# EAGLE library part MX29F040CQI (library macronix-custom)
IC FLASH 4MBIT 70NS 32PLCC
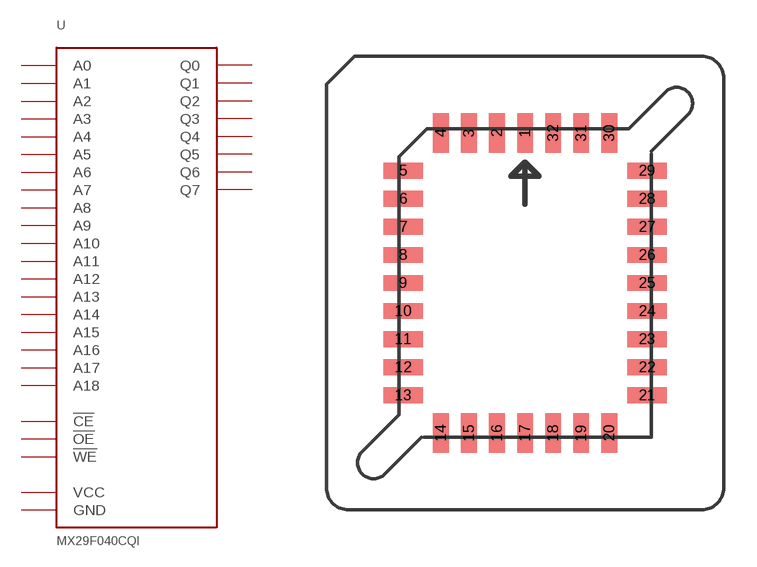
[diagram p0: symbol with the pads of PLCC-32-SMT-TT; footprint PLCC-32-SMT-TT]

Designator prefix -

## MX29F040CQI  [PLCC-32-SMT-TT]
1  A18
2  A16
3  A15
4  A12
5  A7
6  A6
7  A5
8  A4
9  A3
10  A2
11  A1
12  A0
13  Q0
14  Q1
15  Q2
16  GND
17  Q3
18  Q4
19  Q5
20  Q6
21  Q7
22  !CE
23  A10
24  !OE
25  A11
26  A9
27  A8
28  A13
29  A14
30  A17
31  !WE
32  VCC

## Footprint PLCC-32-SMT-TT (pad centres in mm)
PLCC-32 SMT-TT Source: http://www.3m.com/interconnects * Drawing: TS-1069-01
smd 0.71 x 1.78: 1 0,6.785; 2 -1.27,6.785; 3 -2.54,6.785; 4 -3.81,6.785; 14 -3.81,-6.785; 15 -2.54,-6.785; 16 -1.27,-6.785; 17 0,-6.785; 18 1.27,-6.785; 19 2.54,-6.785; 20 3.81,-6.785; 30 3.81,6.785; 31 2.54,6.785; 32 1.27,6.785
smd 1.78 x 0.71: 5 -5.515,5.08; 6 -5.515,3.81; 7 -5.515,2.54; 8 -5.515,1.27; 9 -5.515,0; 10 -5.515,-1.27; 11 -5.515,-2.54; 12 -5.515,-3.81; 13 -5.515,-5.08; 21 5.515,-5.08; 22 5.515,-3.81; 23 5.515,-2.54; 24 5.515,-1.27; 25 5.515,0; 26 5.515,1.27; 27 5.515,2.54; 28 5.515,3.81; 29 5.515,5.08